# Altium integrated library TI Amplifiers and Linear Operational Amplifier Fully Differential Amplifier.IntLib: 262 symbols (part 5 of 11)
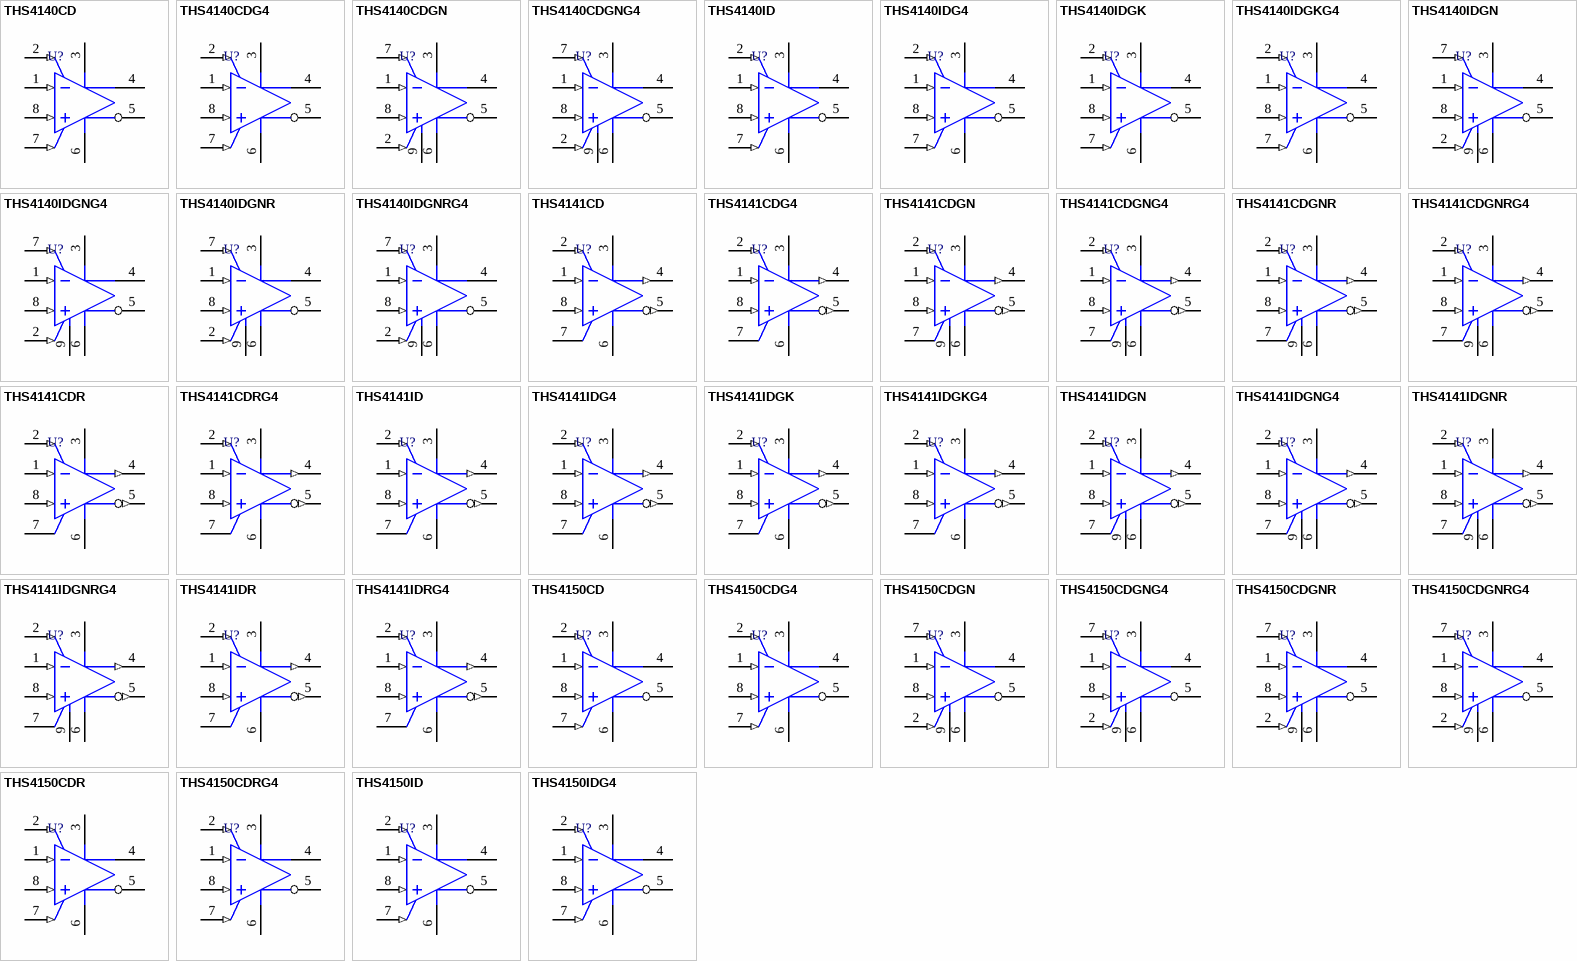
[diagram p11: symbols THS4140CD to THS4150IDG4]

## THS4141IDR
designator U?
Fully Differential Input / Output High Slew Rate Amplifier, 5 to 30 V, -40 to 85 degC, 8-pin SOIC (D8), Green (RoHS & no Sb/Br); Manufacturer: Texas Instruments; PartNumber: THS4141IDR; 2nd Harmonic(dBc): 85; 3rd Harmonic(dBc): 79; @ MHz: 1; BW @ Acl(MHz): 160; Iq per channel(Max)(mA): 16; Offset Voltage Drift (+/-)(Max)(uV/Degrees Celsius: 7; Settling Time (0.1%)(Typ)(ns): 96; Slew Rate(Typ)(V/us): 450; SubFamily: Fully Differential Amplifier; THD (Fc is 1 MHz)(Typ)(dB): -78; Vn at Flatband(Typ)(nV/rtHz): 6.5; Vs(Max)(V): 30; Vs(Min)(V): 5; DatasheetVersion: SLOS320F; PackageVersion: 4040047-3/M, 06/2011; PackageReference: D8; PackageDescription: 8-Pin Plastic Small Outline, Body 4.9 x 3.9 mm, Pitch 1.27 mm; Supplier 1: Digi-Key; Supplier Part Number 1: THS4141IDR-ND; Supplier 2: Mouser; Supplier Part Number 2: 595-THS4141IDR; Eco-Plan: Green (RoHS & no Sb/Br); Io(Typ)(mA): 85; Number of Channels: 1; Vio(Max)(mV): 7; Mounting Technology: Surface Mount; Code_JEDEC: MS-012; ComponentLink1Description: Manufacturer URL; ComponentLink1URL: http://www.ti.com/; ComponentLink2Description: Datasheet; ComponentLink2URL: http://www.ti.com/general/docs/lit/getliterature.tsp?genericPartNumber=THS4141&fileType=pdf; ComponentLink3Description: Package Specification; ComponentLink3URL: http://www.ti.com/litv/pdf/msoi002j
footprint TI-D8_N (SOIC, 8-Leads, Body 4.9x3.9mm, Pitch 1.27mm, IPC Medium Density)
footprint TI-D8_L (SOIC, 8-Leads, Body 4.9x3.9mm, Pitch 1.27mm, IPC High Density)
footprint TI-D8_M (SOIC, 8-Leads, Body 4.9x3.9mm, Pitch 1.27mm, IPC Low Density)
pins: 1 VIN- (in), 2 VOCM (in), 3 VCC+ (power), 4 VOUT+ (out), 5 VOUT- (out), 6 VCC- (power), 7 NC, 8 VIN+ (in)

## THS4141IDRG4
designator U?
Fully Differential Input / Output High Slew Rate Amplifier, 5 to 30 V, -40 to 85 degC, 8-pin SOIC (D8), Green (RoHS & no Sb/Br); Manufacturer: Texas Instruments; PartNumber: THS4141IDRG4; 2nd Harmonic(dBc): 85; 3rd Harmonic(dBc): 79; @ MHz: 1; BW @ Acl(MHz): 160; Iq per channel(Max)(mA): 16; Offset Voltage Drift (+/-)(Max)(uV/Degrees Celsius: 7; Settling Time (0.1%)(Typ)(ns): 96; Slew Rate(Typ)(V/us): 450; SubFamily: Fully Differential Amplifier; THD (Fc is 1 MHz)(Typ)(dB): -78; Vn at Flatband(Typ)(nV/rtHz): 6.5; Vs(Max)(V): 30; Vs(Min)(V): 5; DatasheetVersion: SLOS320F; PackageVersion: 4040047-3/M, 06/2011; PackageReference: D8; PackageDescription: 8-Pin Plastic Small Outline, Body 4.9 x 3.9 mm, Pitch 1.27 mm; Supplier 1: Digi-Key; Supplier Part Number 1: THS4141IDRG4-ND; Supplier 2: Mouser; Supplier Part Number 2: 595-THS4141IDRG4; Eco-Plan: Green (RoHS & no Sb/Br); Io(Typ)(mA): 85; Number of Channels: 1; Vio(Max)(mV): 7; Mounting Technology: Surface Mount; Code_JEDEC: MS-012; ComponentLink1Description: Manufacturer URL; ComponentLink1URL: http://www.ti.com/; ComponentLink2Description: Datasheet; ComponentLink2URL: http://www.ti.com/general/docs/lit/getliterature.tsp?genericPartNumber=THS4141&fileType=pdf; ComponentLink3Description: Package Specification; ComponentLink3URL: http://www.ti.com/litv/pdf/msoi002j
footprint TI-D8_N (SOIC, 8-Leads, Body 4.9x3.9mm, Pitch 1.27mm, IPC Medium Density)
footprint TI-D8_L (SOIC, 8-Leads, Body 4.9x3.9mm, Pitch 1.27mm, IPC High Density)
footprint TI-D8_M (SOIC, 8-Leads, Body 4.9x3.9mm, Pitch 1.27mm, IPC Low Density)
pins: 1 VIN- (in), 2 VOCM (in), 3 VCC+ (power), 4 VOUT+ (out), 5 VOUT- (out), 6 VCC- (power), 7 NC, 8 VIN+ (in)

## THS4150CD
designator U?
Fully Differential Input / Output High Slew Rate Amplifier with Shutdown, 5 to 30 V, 0 to 70 degC, 8-pin SOIC (D8), Green (RoHS & no Sb/Br); Manufacturer: Texas Instruments; PartNumber: THS4150CD; 2nd Harmonic(dBc): 86; 3rd Harmonic(dBc): 95; @ MHz: 1; BW @ Acl(MHz): 150; Io(Typ)(mA): 85; Iq per channel(Max)(mA): 21; Offset Voltage Drift (+/-)(Max)(uV/Degrees Celsius: 7; Settling Time (0.1%)(Typ)(ns): 53; Slew Rate(Typ)(V/us): 650; SubFamily: Fully Differential Amplifier; THD (Fc is 1 MHz)(Typ)(dB): -84; Vn at Flatband(Typ)(nV/rtHz): 7.6; Vs(Max)(V): 30; Vs(Min)(V): 5; DatasheetVersion: SLOS321G; PackageVersion: 4040047-3/M, 06/2011; PackageReference: D8; PackageDescription: 8-Pin Plastic Small Outline, Body 4.9 x 3.9 mm, Pitch 1.27 mm; Supplier 1: Digi-Key; Supplier Part Number 1: 296-34220-5-ND; Supplier 2: Newark; Supplier Part Number 2: 76C6432; Supplier 3: Mouser; Supplier Part Number 3: 595-THS4150CD; Eco-Plan: Green (RoHS & no Sb/Br); Number of Channels: 1; Vio(Max)(mV): 7; Mounting Technology: Surface Mount; Code_JEDEC: MS-012; ComponentLink1Description: Manufacturer URL; ComponentLink1URL: http://www.ti.com/; ComponentLink2Description: Datasheet; ComponentLink2URL: http://www.ti.com/general/docs/lit/getliterature.tsp?genericPartNumber=THS4150&fileType=pdf; ComponentLink3Description: Package Specification; ComponentLink3URL: http://www.ti.com/litv/pdf/msoi002j
footprint TI-D8_N (SOIC, 8-Leads, Body 4.9x3.9mm, Pitch 1.27mm, IPC Medium Density)
footprint TI-D8_L (SOIC, 8-Leads, Body 4.9x3.9mm, Pitch 1.27mm, IPC High Density)
footprint TI-D8_M (SOIC, 8-Leads, Body 4.9x3.9mm, Pitch 1.27mm, IPC Low Density)
pins: 1 VIN- (in), 2 VOCM (in), 3 VCC+ (power), 4 VOUT+ (hiz), 5 VOUT- (hiz), 6 VCC- (power), 7 ~{PD} (in), 8 VIN+ (in)

## THS4150CDG4
designator U?
Fully Differential Input / Output High Slew Rate Amplifier with Shutdown, 5 to 30 V, 0 to 70 degC, 8-pin SOIC (D8), Green (RoHS & no Sb/Br); Manufacturer: Texas Instruments; PartNumber: THS4150CDG4; 2nd Harmonic(dBc): 86; 3rd Harmonic(dBc): 95; @ MHz: 1; BW @ Acl(MHz): 150; Io(Typ)(mA): 85; Iq per channel(Max)(mA): 21; Offset Voltage Drift (+/-)(Max)(uV/Degrees Celsius: 7; Settling Time (0.1%)(Typ)(ns): 53; Slew Rate(Typ)(V/us): 650; SubFamily: Fully Differential Amplifier; THD (Fc is 1 MHz)(Typ)(dB): -84; Vn at Flatband(Typ)(nV/rtHz): 7.6; Vs(Max)(V): 30; Vs(Min)(V): 5; DatasheetVersion: SLOS321G; PackageVersion: 4040047-3/M, 06/2011; PackageReference: D8; PackageDescription: 8-Pin Plastic Small Outline, Body 4.9 x 3.9 mm, Pitch 1.27 mm; Supplier 1: Digi-Key; Supplier Part Number 1: THS4150CDG4-ND; Supplier 2: Mouser; Supplier Part Number 2: 595-THS4150CDG4; Eco-Plan: Green (RoHS & no Sb/Br); Number of Channels: 1; Vio(Max)(mV): 7; Mounting Technology: Surface Mount; Code_JEDEC: MS-012; ComponentLink1Description: Manufacturer URL; ComponentLink1URL: http://www.ti.com/; ComponentLink2Description: Datasheet; ComponentLink2URL: http://www.ti.com/general/docs/lit/getliterature.tsp?genericPartNumber=THS4150&fileType=pdf; ComponentLink3Description: Package Specification; ComponentLink3URL: http://www.ti.com/litv/pdf/msoi002j
footprint TI-D8_N (SOIC, 8-Leads, Body 4.9x3.9mm, Pitch 1.27mm, IPC Medium Density)
footprint TI-D8_L (SOIC, 8-Leads, Body 4.9x3.9mm, Pitch 1.27mm, IPC High Density)
footprint TI-D8_M (SOIC, 8-Leads, Body 4.9x3.9mm, Pitch 1.27mm, IPC Low Density)
pins: 1 VIN- (in), 2 VOCM (in), 3 VCC+ (power), 4 VOUT+ (hiz), 5 VOUT- (hiz), 6 VCC- (power), 7 ~{PD} (in), 8 VIN+ (in)

## THS4150CDGN
designator U?
Fully Differential Input / Output High Slew Rate Amplifier with Shutdown, 5 to 30 V, 0 to 70 degC, 8-pin SOP (DGN8), Green (RoHS & no Sb/Br); Manufacturer: Texas Instruments; PartNumber: THS4150CDGN; 2nd Harmonic(dBc): 86; 3rd Harmonic(dBc): 95; @ MHz: 1; BW @ Acl(MHz): 150; Io(Typ)(mA): 85; Iq per channel(Max)(mA): 21; Offset Voltage Drift (+/-)(Max)(uV/Degrees Celsius: 7; Settling Time (0.1%)(Typ)(ns): 53; Slew Rate(Typ)(V/us): 650; SubFamily: Fully Differential Amplifier; THD (Fc is 1 MHz)(Typ)(dB): -84; Vn at Flatband(Typ)(nV/rtHz): 7.6; Vs(Max)(V): 30; Vs(Min)(V): 5; DatasheetVersion: SLOS321G; PackageVersion: 4073271/F, 05/2011; PackageReference: DGN8-1760X1425TP; PackageDescription: 8-Pin Plastic Small Outline, Body 3 x 3 mm, Pitch 0.65 mm; Supplier 1: Digi-Key; Supplier Part Number 1: THS4150CDGN-ND; Supplier 2: Newark; Supplier Part Number 2: 76C6433; Supplier 3: Mouser; Supplier Part Number 3: 595-THS4150CDGN; Eco-Plan: Green (RoHS & no Sb/Br); Number of Channels: 1; Vio(Max)(mV): 7; Mounting Technology: Surface Mount; Code_JEDEC: MO-187; ComponentLink1Description: Manufacturer URL; ComponentLink1URL: http://www.ti.com/; ComponentLink2Description: Datasheet; ComponentLink2URL: http://www.ti.com/general/docs/lit/getliterature.tsp?genericPartNumber=THS4150&fileType=pdf; ComponentLink3Description: Package Specification; ComponentLink3URL: http://www.ti.com/litv/pdf/mpds046e
footprint TI-DGN8-1760X1425TP_N (SOP, 8-Leads, Body 3x3mm, Pitch 0.65mm, Thermal Pad 1.76x1.425mm, IPC Medium Density)
footprint TI-DGN8-1760X1425TP_L (SOP, 8-Leads, Body 3x3mm, Pitch 0.65mm, Thermal Pad 1.76x1.425mm, IPC High Density)
footprint TI-DGN8-1760X1425TP_M (SOP, 8-Leads, Body 3x3mm, Pitch 0.65mm, Thermal Pad 1.76 x 1.425 mm, IPC Low Density)
pins: 1 VIN- (in), 2 VOCM (in), 3 VCC+ (power), 4 VOUT+ (hiz), 5 VOUT- (hiz), 6 VCC- (power), 7 ~{PD} (in), 8 VIN+ (in), 9 EP

## THS4150CDGNG4
designator U?
Fully Differential Input / Output High Slew Rate Amplifier with Shutdown, 5 to 30 V, 0 to 70 degC, 8-pin SOP (DGN8), Green (RoHS & no Sb/Br); Manufacturer: Texas Instruments; PartNumber: THS4150CDGNG4; 2nd Harmonic(dBc): 86; 3rd Harmonic(dBc): 95; @ MHz: 1; BW @ Acl(MHz): 150; Io(Typ)(mA): 85; Iq per channel(Max)(mA): 21; Offset Voltage Drift (+/-)(Max)(uV/Degrees Celsius: 7; Settling Time (0.1%)(Typ)(ns): 53; Slew Rate(Typ)(V/us): 650; SubFamily: Fully Differential Amplifier; THD (Fc is 1 MHz)(Typ)(dB): -84; Vn at Flatband(Typ)(nV/rtHz): 7.6; Vs(Max)(V): 30; Vs(Min)(V): 5; DatasheetVersion: SLOS321G; PackageVersion: 4073271/F, 05/2011; PackageReference: DGN8-1760X1425TP; PackageDescription: 8-Pin Plastic Small Outline, Body 3 x 3 mm, Pitch 0.65 mm; Supplier 1: Digi-Key; Supplier Part Number 1: THS4150CDGNG4-ND; Supplier 2: Mouser; Supplier Part Number 2: 595-THS4150CDGNG4; Eco-Plan: Green (RoHS & no Sb/Br); Number of Channels: 1; Vio(Max)(mV): 7; Mounting Technology: Surface Mount; Code_JEDEC: MO-187; ComponentLink1Description: Manufacturer URL; ComponentLink1URL: http://www.ti.com/; ComponentLink2Description: Datasheet; ComponentLink2URL: http://www.ti.com/general/docs/lit/getliterature.tsp?genericPartNumber=THS4150&fileType=pdf; ComponentLink3Description: Package Specification; ComponentLink3URL: http://www.ti.com/litv/pdf/mpds046e
footprint TI-DGN8-1760X1425TP_N (SOP, 8-Leads, Body 3x3mm, Pitch 0.65mm, Thermal Pad 1.76x1.425mm, IPC Medium Density)
footprint TI-DGN8-1760X1425TP_L (SOP, 8-Leads, Body 3x3mm, Pitch 0.65mm, Thermal Pad 1.76x1.425mm, IPC High Density)
footprint TI-DGN8-1760X1425TP_M (SOP, 8-Leads, Body 3x3mm, Pitch 0.65mm, Thermal Pad 1.76 x 1.425 mm, IPC Low Density)
pins: 1 VIN- (in), 2 VOCM (in), 3 VCC+ (power), 4 VOUT+ (hiz), 5 VOUT- (hiz), 6 VCC- (power), 7 ~{PD} (in), 8 VIN+ (in), 9 EP

## THS4150CDGNR
designator U?
Fully Differential Input / Output High Slew Rate Amplifier with Shutdown, 5 to 30 V, 0 to 70 degC, 8-pin SOP (DGN8), Green (RoHS & no Sb/Br); Manufacturer: Texas Instruments; PartNumber: THS4150CDGNR; 2nd Harmonic(dBc): 86; 3rd Harmonic(dBc): 95; @ MHz: 1; BW @ Acl(MHz): 150; Io(Typ)(mA): 85; Iq per channel(Max)(mA): 21; Offset Voltage Drift (+/-)(Max)(uV/Degrees Celsius: 7; Settling Time (0.1%)(Typ)(ns): 53; Slew Rate(Typ)(V/us): 650; SubFamily: Fully Differential Amplifier; THD (Fc is 1 MHz)(Typ)(dB): -84; Vn at Flatband(Typ)(nV/rtHz): 7.6; Vs(Max)(V): 30; Vs(Min)(V): 5; DatasheetVersion: SLOS321G; PackageVersion: 4073271/F, 05/2011; PackageReference: DGN8-1760X1425TP; PackageDescription: 8-Pin Plastic Small Outline, Body 3 x 3 mm, Pitch 0.65 mm; Supplier 1: Digi-Key; Supplier Part Number 1: THS4150CDGNR-ND; Supplier 2: Newark; Supplier Part Number 2: 76C6434; Supplier 3: Mouser; Supplier Part Number 3: 595-THS4150CDGNR; Eco-Plan: Green (RoHS & no Sb/Br); Number of Channels: 1; Vio(Max)(mV): 7; Mounting Technology: Surface Mount; Code_JEDEC: MO-187; ComponentLink1Description: Manufacturer URL; ComponentLink1URL: http://www.ti.com/; ComponentLink2Description: Datasheet; ComponentLink2URL: http://www.ti.com/general/docs/lit/getliterature.tsp?genericPartNumber=THS4150&fileType=pdf; ComponentLink3Description: Package Specification; ComponentLink3URL: http://www.ti.com/litv/pdf/mpds046e
footprint TI-DGN8-1760X1425TP_N (SOP, 8-Leads, Body 3x3mm, Pitch 0.65mm, Thermal Pad 1.76x1.425mm, IPC Medium Density)
footprint TI-DGN8-1760X1425TP_L (SOP, 8-Leads, Body 3x3mm, Pitch 0.65mm, Thermal Pad 1.76x1.425mm, IPC High Density)
footprint TI-DGN8-1760X1425TP_M (SOP, 8-Leads, Body 3x3mm, Pitch 0.65mm, Thermal Pad 1.76 x 1.425 mm, IPC Low Density)
pins: 1 VIN- (in), 2 VOCM (in), 3 VCC+ (power), 4 VOUT+ (hiz), 5 VOUT- (hiz), 6 VCC- (power), 7 ~{PD} (in), 8 VIN+ (in), 9 EP

## THS4150CDGNRG4
designator U?
Fully Differential Input / Output High Slew Rate Amplifier with Shutdown, 5 to 30 V, 0 to 70 degC, 8-pin SOP (DGN8), Green (RoHS & no Sb/Br); Manufacturer: Texas Instruments; PartNumber: THS4150CDGNRG4; 2nd Harmonic(dBc): 86; 3rd Harmonic(dBc): 95; @ MHz: 1; BW @ Acl(MHz): 150; Io(Typ)(mA): 85; Iq per channel(Max)(mA): 21; Offset Voltage Drift (+/-)(Max)(uV/Degrees Celsius: 7; Settling Time (0.1%)(Typ)(ns): 53; Slew Rate(Typ)(V/us): 650; SubFamily: Fully Differential Amplifier; THD (Fc is 1 MHz)(Typ)(dB): -84; Vn at Flatband(Typ)(nV/rtHz): 7.6; Vs(Max)(V): 30; Vs(Min)(V): 5; DatasheetVersion: SLOS321G; PackageVersion: 4073271/F, 05/2011; PackageReference: DGN8-1760X1425TP; PackageDescription: 8-Pin Plastic Small Outline, Body 3 x 3 mm, Pitch 0.65 mm; Supplier 1: Digi-Key; Supplier Part Number 1: THS4150CDGNRG4-ND; Supplier 2: Mouser; Supplier Part Number 2: 595-THS4150CDGNRG4; Eco-Plan: Green (RoHS & no Sb/Br); Number of Channels: 1; Vio(Max)(mV): 7; Mounting Technology: Surface Mount; Code_JEDEC: MO-187; ComponentLink1Description: Manufacturer URL; ComponentLink1URL: http://www.ti.com/; ComponentLink2Description: Datasheet; ComponentLink2URL: http://www.ti.com/general/docs/lit/getliterature.tsp?genericPartNumber=THS4150&fileType=pdf; ComponentLink3Description: Package Specification; ComponentLink3URL: http://www.ti.com/litv/pdf/mpds046e
footprint TI-DGN8-1760X1425TP_N (SOP, 8-Leads, Body 3x3mm, Pitch 0.65mm, Thermal Pad 1.76x1.425mm, IPC Medium Density)
footprint TI-DGN8-1760X1425TP_L (SOP, 8-Leads, Body 3x3mm, Pitch 0.65mm, Thermal Pad 1.76x1.425mm, IPC High Density)
footprint TI-DGN8-1760X1425TP_M (SOP, 8-Leads, Body 3x3mm, Pitch 0.65mm, Thermal Pad 1.76 x 1.425 mm, IPC Low Density)
pins: 1 VIN- (in), 2 VOCM (in), 3 VCC+ (power), 4 VOUT+ (hiz), 5 VOUT- (hiz), 6 VCC- (power), 7 ~{PD} (in), 8 VIN+ (in), 9 EP

## THS4150CDR
designator U?
Fully Differential Input / Output High Slew Rate Amplifier with Shutdown, 5 to 30 V, 0 to 70 degC, 8-pin SOIC (D8), Green (RoHS & no Sb/Br); Manufacturer: Texas Instruments; PartNumber: THS4150CDR; 2nd Harmonic(dBc): 86; 3rd Harmonic(dBc): 95; @ MHz: 1; BW @ Acl(MHz): 150; Io(Typ)(mA): 85; Iq per channel(Max)(mA): 21; Offset Voltage Drift (+/-)(Max)(uV/Degrees Celsius: 7; Settling Time (0.1%)(Typ)(ns): 53; Slew Rate(Typ)(V/us): 650; SubFamily: Fully Differential Amplifier; THD (Fc is 1 MHz)(Typ)(dB): -84; Vn at Flatband(Typ)(nV/rtHz): 7.6; Vs(Max)(V): 30; Vs(Min)(V): 5; DatasheetVersion: SLOS321G; PackageVersion: 4040047-3/M, 06/2011; PackageReference: D8; PackageDescription: 8-Pin Plastic Small Outline, Body 4.9 x 3.9 mm, Pitch 1.27 mm; Supplier 1: Digi-Key; Supplier Part Number 1: THS4150CDR-ND; Supplier 2: Mouser; Supplier Part Number 2: 595-THS4150CDR; Eco-Plan: Green (RoHS & no Sb/Br); Number of Channels: 1; Vio(Max)(mV): 7; Mounting Technology: Surface Mount; Code_JEDEC: MS-012; ComponentLink1Description: Manufacturer URL; ComponentLink1URL: http://www.ti.com/; ComponentLink2Description: Datasheet; ComponentLink2URL: http://www.ti.com/general/docs/lit/getliterature.tsp?genericPartNumber=THS4150&fileType=pdf; ComponentLink3Description: Package Specification; ComponentLink3URL: http://www.ti.com/litv/pdf/msoi002j
footprint TI-D8_N (SOIC, 8-Leads, Body 4.9x3.9mm, Pitch 1.27mm, IPC Medium Density)
footprint TI-D8_L (SOIC, 8-Leads, Body 4.9x3.9mm, Pitch 1.27mm, IPC High Density)
footprint TI-D8_M (SOIC, 8-Leads, Body 4.9x3.9mm, Pitch 1.27mm, IPC Low Density)
pins: 1 VIN- (in), 2 VOCM (in), 3 VCC+ (power), 4 VOUT+ (hiz), 5 VOUT- (hiz), 6 VCC- (power), 7 ~{PD} (in), 8 VIN+ (in)

## THS4150CDRG4
designator U?
Fully Differential Input / Output High Slew Rate Amplifier with Shutdown, 5 to 30 V, 0 to 70 degC, 8-pin SOIC (D8), Green (RoHS & no Sb/Br); Manufacturer: Texas Instruments; PartNumber: THS4150CDRG4; 2nd Harmonic(dBc): 86; 3rd Harmonic(dBc): 95; @ MHz: 1; BW @ Acl(MHz): 150; Io(Typ)(mA): 85; Iq per channel(Max)(mA): 21; Offset Voltage Drift (+/-)(Max)(uV/Degrees Celsius: 7; Settling Time (0.1%)(Typ)(ns): 53; Slew Rate(Typ)(V/us): 650; SubFamily: Fully Differential Amplifier; THD (Fc is 1 MHz)(Typ)(dB): -84; Vn at Flatband(Typ)(nV/rtHz): 7.6; Vs(Max)(V): 30; Vs(Min)(V): 5; DatasheetVersion: SLOS321G; PackageVersion: 4040047-3/M, 06/2011; PackageReference: D8; PackageDescription: 8-Pin Plastic Small Outline, Body 4.9 x 3.9 mm, Pitch 1.27 mm; Supplier 1: Digi-Key; Supplier Part Number 1: THS4150CDRG4-ND; Supplier 2: Mouser; Supplier Part Number 2: 595-THS4150CDRG4; Eco-Plan: Green (RoHS & no Sb/Br); Number of Channels: 1; Vio(Max)(mV): 7; Mounting Technology: Surface Mount; Code_JEDEC: MS-012; ComponentLink1Description: Manufacturer URL; ComponentLink1URL: http://www.ti.com/; ComponentLink2Description: Datasheet; ComponentLink2URL: http://www.ti.com/general/docs/lit/getliterature.tsp?genericPartNumber=THS4150&fileType=pdf; ComponentLink3Description: Package Specification; ComponentLink3URL: http://www.ti.com/litv/pdf/msoi002j
footprint TI-D8_N (SOIC, 8-Leads, Body 4.9x3.9mm, Pitch 1.27mm, IPC Medium Density)
footprint TI-D8_L (SOIC, 8-Leads, Body 4.9x3.9mm, Pitch 1.27mm, IPC High Density)
footprint TI-D8_M (SOIC, 8-Leads, Body 4.9x3.9mm, Pitch 1.27mm, IPC Low Density)
pins: 1 VIN- (in), 2 VOCM (in), 3 VCC+ (power), 4 VOUT+ (hiz), 5 VOUT- (hiz), 6 VCC- (power), 7 ~{PD} (in), 8 VIN+ (in)

## THS4150ID
designator U?
Fully Differential Input / Output High Slew Rate Amplifier with Shutdown, 5 to 30 V, -40 to 85 degC, 8-pin SOIC (D8), Green (RoHS & no Sb/Br); Manufacturer: Texas Instruments; PartNumber: THS4150ID; 2nd Harmonic(dBc): 86; 3rd Harmonic(dBc): 95; @ MHz: 1; BW @ Acl(MHz): 150; Io(Typ)(mA): 85; Iq per channel(Max)(mA): 21; Offset Voltage Drift (+/-)(Max)(uV/Degrees Celsius: 7; Settling Time (0.1%)(Typ)(ns): 53; Slew Rate(Typ)(V/us): 650; SubFamily: Fully Differential Amplifier; THD (Fc is 1 MHz)(Typ)(dB): -84; Vn at Flatband(Typ)(nV/rtHz): 7.6; Vs(Max)(V): 30; Vs(Min)(V): 5; DatasheetVersion: SLOS321G; PackageVersion: 4040047-3/M, 06/2011; PackageReference: D8; PackageDescription: 8-Pin Plastic Small Outline, Body 4.9 x 3.9 mm, Pitch 1.27 mm; Supplier 1: Digi-Key; Supplier Part Number 1: 296-10052-5-ND; Supplier 2: Mouser; Supplier Part Number 2: 595-THS4150ID; Eco-Plan: Green (RoHS & no Sb/Br); Number of Channels: 1; Vio(Max)(mV): 7; Mounting Technology: Surface Mount; Code_JEDEC: MS-012; ComponentLink1Description: Manufacturer URL; ComponentLink1URL: http://www.ti.com/; ComponentLink2Description: Datasheet; ComponentLink2URL: http://www.ti.com/general/docs/lit/getliterature.tsp?genericPartNumber=THS4150&fileType=pdf; ComponentLink3Description: Package Specification; ComponentLink3URL: http://www.ti.com/litv/pdf/msoi002j
footprint TI-D8_N (SOIC, 8-Leads, Body 4.9x3.9mm, Pitch 1.27mm, IPC Medium Density)
footprint TI-D8_L (SOIC, 8-Leads, Body 4.9x3.9mm, Pitch 1.27mm, IPC High Density)
footprint TI-D8_M (SOIC, 8-Leads, Body 4.9x3.9mm, Pitch 1.27mm, IPC Low Density)
pins: 1 VIN- (in), 2 VOCM (in), 3 VCC+ (power), 4 VOUT+ (hiz), 5 VOUT- (hiz), 6 VCC- (power), 7 ~{PD} (in), 8 VIN+ (in)

## THS4150IDG4
designator U?
Fully Differential Input / Output High Slew Rate Amplifier with Shutdown, 5 to 30 V, -40 to 85 degC, 8-pin SOIC (D8), Green (RoHS & no Sb/Br); Manufacturer: Texas Instruments; PartNumber: THS4150IDG4; 2nd Harmonic(dBc): 86; 3rd Harmonic(dBc): 95; @ MHz: 1; BW @ Acl(MHz): 150; Io(Typ)(mA): 85; Iq per channel(Max)(mA): 21; Offset Voltage Drift (+/-)(Max)(uV/Degrees Celsius: 7; Settling Time (0.1%)(Typ)(ns): 53; Slew Rate(Typ)(V/us): 650; SubFamily: Fully Differential Amplifier; THD (Fc is 1 MHz)(Typ)(dB): -84; Vn at Flatband(Typ)(nV/rtHz): 7.6; Vs(Max)(V): 30; Vs(Min)(V): 5; DatasheetVersion: SLOS321G; PackageVersion: 4040047-3/M, 06/2011; PackageReference: D8; PackageDescription: 8-Pin Plastic Small Outline, Body 4.9 x 3.9 mm, Pitch 1.27 mm; Supplier 1: Digi-Key; Supplier Part Number 1: THS4150IDG4-ND; Supplier 2: Mouser; Supplier Part Number 2: 595-THS4150IDG4; Eco-Plan: Green (RoHS & no Sb/Br); Number of Channels: 1; Vio(Max)(mV): 7; Mounting Technology: Surface Mount; Code_JEDEC: MS-012; ComponentLink1Description: Manufacturer URL; ComponentLink1URL: http://www.ti.com/; ComponentLink2Description: Datasheet; ComponentLink2URL: http://www.ti.com/general/docs/lit/getliterature.tsp?genericPartNumber=THS4150&fileType=pdf; ComponentLink3Description: Package Specification; ComponentLink3URL: http://www.ti.com/litv/pdf/msoi002j
footprint TI-D8_N (SOIC, 8-Leads, Body 4.9x3.9mm, Pitch 1.27mm, IPC Medium Density)
footprint TI-D8_L (SOIC, 8-Leads, Body 4.9x3.9mm, Pitch 1.27mm, IPC High Density)
footprint TI-D8_M (SOIC, 8-Leads, Body 4.9x3.9mm, Pitch 1.27mm, IPC Low Density)
pins: 1 VIN- (in), 2 VOCM (in), 3 VCC+ (power), 4 VOUT+ (hiz), 5 VOUT- (hiz), 6 VCC- (power), 7 ~{PD} (in), 8 VIN+ (in)

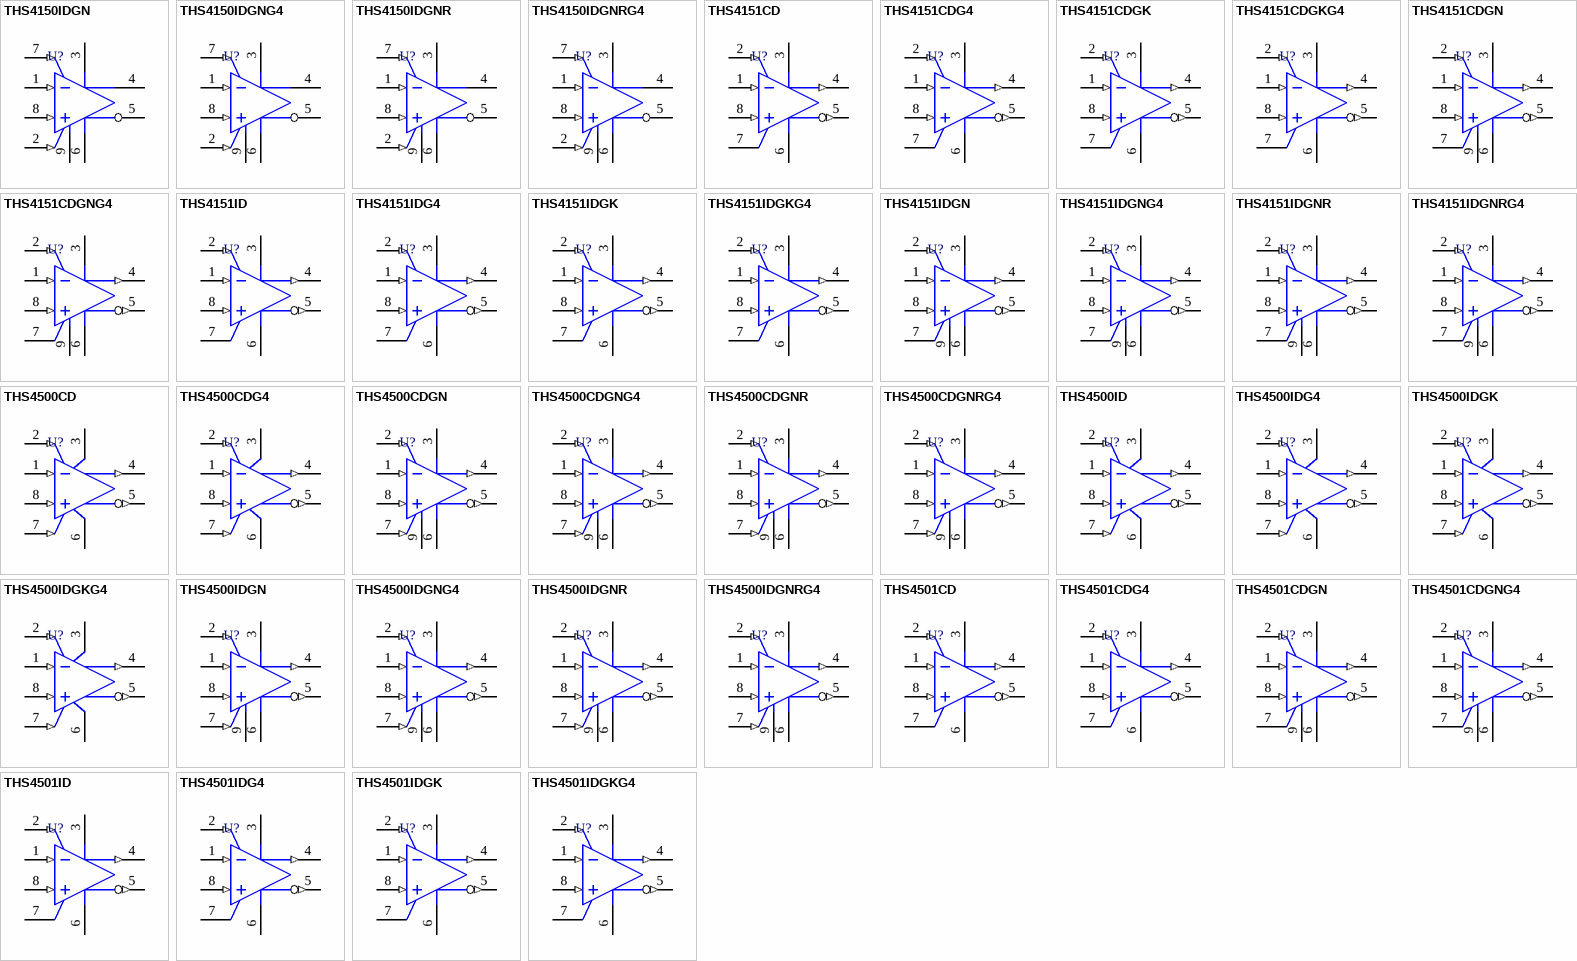
[diagram p3: symbols THS4150IDGN to THS4501IDGKG4]

## THS4150IDGN
designator U?
Fully Differential Input / Output High Slew Rate Amplifier with Shutdown, 5 to 30 V, -40 to 85 degC, 8-pin SOP (DGN8), Green (RoHS & no Sb/Br); Manufacturer: Texas Instruments; PartNumber: THS4150IDGN; 2nd Harmonic(dBc): 86; 3rd Harmonic(dBc): 95; @ MHz: 1; BW @ Acl(MHz): 150; Io(Typ)(mA): 85; Iq per channel(Max)(mA): 21; Offset Voltage Drift (+/-)(Max)(uV/Degrees Celsius: 7; Settling Time (0.1%)(Typ)(ns): 53; Slew Rate(Typ)(V/us): 650; SubFamily: Fully Differential Amplifier; THD (Fc is 1 MHz)(Typ)(dB): -84; Vn at Flatband(Typ)(nV/rtHz): 7.6; Vs(Max)(V): 30; Vs(Min)(V): 5; DatasheetVersion: SLOS321G; PackageVersion: 4073271/F, 05/2011; PackageReference: DGN8-1760X1425TP; PackageDescription: 8-Pin Plastic Small Outline, Body 3 x 3 mm, Pitch 0.65 mm; Supplier 1: Digi-Key; Supplier Part Number 1: THS4150IDGN-ND; Supplier 2: Newark; Supplier Part Number 2: 76C6438; Supplier 3: Mouser; Supplier Part Number 3: 595-THS4150IDGN; Eco-Plan: Green (RoHS & no Sb/Br); Number of Channels: 1; Vio(Max)(mV): 7; Mounting Technology: Surface Mount; Code_JEDEC: MO-187; ComponentLink1Description: Manufacturer URL; ComponentLink1URL: http://www.ti.com/; ComponentLink2Description: Datasheet; ComponentLink2URL: http://www.ti.com/general/docs/lit/getliterature.tsp?genericPartNumber=THS4150&fileType=pdf; ComponentLink3Description: Package Specification; ComponentLink3URL: http://www.ti.com/litv/pdf/mpds046e
footprint TI-DGN8-1760X1425TP_N (SOP, 8-Leads, Body 3x3mm, Pitch 0.65mm, Thermal Pad 1.76x1.425mm, IPC Medium Density)
footprint TI-DGN8-1760X1425TP_L (SOP, 8-Leads, Body 3x3mm, Pitch 0.65mm, Thermal Pad 1.76x1.425mm, IPC High Density)
footprint TI-DGN8-1760X1425TP_M (SOP, 8-Leads, Body 3x3mm, Pitch 0.65mm, Thermal Pad 1.76 x 1.425 mm, IPC Low Density)
pins: 1 VIN- (in), 2 VOCM (in), 3 VCC+ (power), 4 VOUT+ (hiz), 5 VOUT- (hiz), 6 VCC- (power), 7 ~{PD} (in), 8 VIN+ (in), 9 EP

## THS4150IDGNG4
designator U?
Fully Differential Input / Output High Slew Rate Amplifier with Shutdown, 5 to 30 V, -40 to 85 degC, 8-pin SOP (DGN8), Green (RoHS & no Sb/Br); Manufacturer: Texas Instruments; PartNumber: THS4150IDGNG4; 2nd Harmonic(dBc): 86; 3rd Harmonic(dBc): 95; @ MHz: 1; BW @ Acl(MHz): 150; Io(Typ)(mA): 85; Iq per channel(Max)(mA): 21; Offset Voltage Drift (+/-)(Max)(uV/Degrees Celsius: 7; Settling Time (0.1%)(Typ)(ns): 53; Slew Rate(Typ)(V/us): 650; SubFamily: Fully Differential Amplifier; THD (Fc is 1 MHz)(Typ)(dB): -84; Vn at Flatband(Typ)(nV/rtHz): 7.6; Vs(Max)(V): 30; Vs(Min)(V): 5; DatasheetVersion: SLOS321G; PackageVersion: 4073271/F, 05/2011; PackageReference: DGN8-1760X1425TP; PackageDescription: 8-Pin Plastic Small Outline, Body 3 x 3 mm, Pitch 0.65 mm; Supplier 1: Digi-Key; Supplier Part Number 1: THS4150IDGNG4-ND; Supplier 2: Mouser; Supplier Part Number 2: 595-THS4150IDGNG4; Eco-Plan: Green (RoHS & no Sb/Br); Number of Channels: 1; Vio(Max)(mV): 7; Mounting Technology: Surface Mount; Code_JEDEC: MO-187; ComponentLink1Description: Manufacturer URL; ComponentLink1URL: http://www.ti.com/; ComponentLink2Description: Datasheet; ComponentLink2URL: http://www.ti.com/general/docs/lit/getliterature.tsp?genericPartNumber=THS4150&fileType=pdf; ComponentLink3Description: Package Specification; ComponentLink3URL: http://www.ti.com/litv/pdf/mpds046e
footprint TI-DGN8-1760X1425TP_N (SOP, 8-Leads, Body 3x3mm, Pitch 0.65mm, Thermal Pad 1.76x1.425mm, IPC Medium Density)
footprint TI-DGN8-1760X1425TP_L (SOP, 8-Leads, Body 3x3mm, Pitch 0.65mm, Thermal Pad 1.76x1.425mm, IPC High Density)
footprint TI-DGN8-1760X1425TP_M (SOP, 8-Leads, Body 3x3mm, Pitch 0.65mm, Thermal Pad 1.76 x 1.425 mm, IPC Low Density)
pins: 1 VIN- (in), 2 VOCM (in), 3 VCC+ (power), 4 VOUT+ (hiz), 5 VOUT- (hiz), 6 VCC- (power), 7 ~{PD} (in), 8 VIN+ (in), 9 EP

## THS4150IDGNR
designator U?
Fully Differential Input / Output High Slew Rate Amplifier with Shutdown, 5 to 30 V, -40 to 85 degC, 8-pin SOP (DGN8), Green (RoHS & no Sb/Br); Manufacturer: Texas Instruments; PartNumber: THS4150IDGNR; 2nd Harmonic(dBc): 86; 3rd Harmonic(dBc): 95; @ MHz: 1; BW @ Acl(MHz): 150; Io(Typ)(mA): 85; Iq per channel(Max)(mA): 21; Offset Voltage Drift (+/-)(Max)(uV/Degrees Celsius: 7; Settling Time (0.1%)(Typ)(ns): 53; Slew Rate(Typ)(V/us): 650; SubFamily: Fully Differential Amplifier; THD (Fc is 1 MHz)(Typ)(dB): -84; Vn at Flatband(Typ)(nV/rtHz): 7.6; Vs(Max)(V): 30; Vs(Min)(V): 5; DatasheetVersion: SLOS321G; PackageVersion: 4073271/F, 05/2011; PackageReference: DGN8-1760X1425TP; PackageDescription: 8-Pin Plastic Small Outline, Body 3 x 3 mm, Pitch 0.65 mm; Supplier 1: Digi-Key; Supplier Part Number 1: 296-13344-2-ND; Supplier 2: Digi-Key; Supplier Part Number 2: 296-13344-1-ND; Supplier 3: Digi-Key; Supplier Part Number 3: 296-13344-6-ND; Supplier 4: Mouser; Supplier Part Number 4: 595-THS4150IDGNR; Eco-Plan: Green (RoHS & no Sb/Br); Number of Channels: 1; Vio(Max)(mV): 7; Mounting Technology: Surface Mount; Code_JEDEC: MO-187; ComponentLink1Description: Manufacturer URL; ComponentLink1URL: http://www.ti.com/; ComponentLink2Description: Datasheet; ComponentLink2URL: http://www.ti.com/general/docs/lit/getliterature.tsp?genericPartNumber=THS4150&fileType=pdf; ComponentLink3Description: Package Specification; ComponentLink3URL: http://www.ti.com/litv/pdf/mpds046e
footprint TI-DGN8-1760X1425TP_N (SOP, 8-Leads, Body 3x3mm, Pitch 0.65mm, Thermal Pad 1.76x1.425mm, IPC Medium Density)
footprint TI-DGN8-1760X1425TP_L (SOP, 8-Leads, Body 3x3mm, Pitch 0.65mm, Thermal Pad 1.76x1.425mm, IPC High Density)
footprint TI-DGN8-1760X1425TP_M (SOP, 8-Leads, Body 3x3mm, Pitch 0.65mm, Thermal Pad 1.76 x 1.425 mm, IPC Low Density)
pins: 1 VIN- (in), 2 VOCM (in), 3 VCC+ (power), 4 VOUT+ (hiz), 5 VOUT- (hiz), 6 VCC- (power), 7 ~{PD} (in), 8 VIN+ (in), 9 EP

## THS4150IDGNRG4
designator U?
Fully Differential Input / Output High Slew Rate Amplifier with Shutdown, 5 to 30 V, -40 to 85 degC, 8-pin SOP (DGN8), Green (RoHS & no Sb/Br); Manufacturer: Texas Instruments; PartNumber: THS4150IDGNRG4; 2nd Harmonic(dBc): 86; 3rd Harmonic(dBc): 95; @ MHz: 1; BW @ Acl(MHz): 150; Io(Typ)(mA): 85; Iq per channel(Max)(mA): 21; Offset Voltage Drift (+/-)(Max)(uV/Degrees Celsius: 7; Settling Time (0.1%)(Typ)(ns): 53; Slew Rate(Typ)(V/us): 650; SubFamily: Fully Differential Amplifier; THD (Fc is 1 MHz)(Typ)(dB): -84; Vn at Flatband(Typ)(nV/rtHz): 7.6; Vs(Max)(V): 30; Vs(Min)(V): 5; DatasheetVersion: SLOS321G; PackageVersion: 4073271/F, 05/2011; PackageReference: DGN8-1760X1425TP; PackageDescription: 8-Pin Plastic Small Outline, Body 3 x 3 mm, Pitch 0.65 mm; Supplier 1: Digi-Key; Supplier Part Number 1: THS4150IDGNRG4-ND; Supplier 2: Mouser; Supplier Part Number 2: 595-THS4150IDGNRG4; Eco-Plan: Green (RoHS & no Sb/Br); Number of Channels: 1; Vio(Max)(mV): 7; Mounting Technology: Surface Mount; Code_JEDEC: MO-187; ComponentLink1Description: Manufacturer URL; ComponentLink1URL: http://www.ti.com/; ComponentLink2Description: Datasheet; ComponentLink2URL: http://www.ti.com/general/docs/lit/getliterature.tsp?genericPartNumber=THS4150&fileType=pdf; ComponentLink3Description: Package Specification; ComponentLink3URL: http://www.ti.com/litv/pdf/mpds046e
footprint TI-DGN8-1760X1425TP_N (SOP, 8-Leads, Body 3x3mm, Pitch 0.65mm, Thermal Pad 1.76x1.425mm, IPC Medium Density)
footprint TI-DGN8-1760X1425TP_L (SOP, 8-Leads, Body 3x3mm, Pitch 0.65mm, Thermal Pad 1.76x1.425mm, IPC High Density)
footprint TI-DGN8-1760X1425TP_M (SOP, 8-Leads, Body 3x3mm, Pitch 0.65mm, Thermal Pad 1.76 x 1.425 mm, IPC Low Density)
pins: 1 VIN- (in), 2 VOCM (in), 3 VCC+ (power), 4 VOUT+ (hiz), 5 VOUT- (hiz), 6 VCC- (power), 7 ~{PD} (in), 8 VIN+ (in), 9 EP

## THS4151CD
designator U?
Fully Differential Input / Output High Slew Rate Amplifier, 5 to 30 V, 0 to 70 degC, 8-pin SOIC (D8), Green (RoHS & no Sb/Br); Manufacturer: Texas Instruments; PartNumber: THS4151CD; 2nd Harmonic(dBc): 86; 3rd Harmonic(dBc): 95; @ MHz: 1; BW @ Acl(MHz): 150; Io(Typ)(mA): 85; Iq per channel(Max)(mA): 21; Offset Voltage Drift (+/-)(Max)(uV/Degrees Celsius: 7; Settling Time (0.1%)(Typ)(ns): 53; Slew Rate(Typ)(V/us): 650; SubFamily: Fully Differential Amplifier; THD (Fc is 1 MHz)(Typ)(dB): -84; Vn at Flatband(Typ)(nV/rtHz): 7.6; Vs(Max)(V): 30; Vs(Min)(V): 5; DatasheetVersion: SLOS321G; PackageVersion: 4040047-3/M, 06/2011; PackageReference: D8; PackageDescription: 8-Pin Plastic Small Outline, Body 4.9 x 3.9 mm, Pitch 1.27 mm; Supplier 1: Digi-Key; Supplier Part Number 1: 296-34221-5-ND; Supplier 2: Newark; Supplier Part Number 2: 73C3829; Supplier 3: Mouser; Supplier Part Number 3: 595-THS4151CD; Eco-Plan: Green (RoHS & no Sb/Br); Number of Channels: 1; Vio(Max)(mV): 7; Mounting Technology: Surface Mount; Code_JEDEC: MS-012; ComponentLink1Description: Manufacturer URL; ComponentLink1URL: http://www.ti.com/; ComponentLink2Description: Datasheet; ComponentLink2URL: http://www.ti.com/general/docs/lit/getliterature.tsp?genericPartNumber=THS4151&fileType=pdf; ComponentLink3Description: Package Specification; ComponentLink3URL: http://www.ti.com/litv/pdf/msoi002j
footprint TI-D8_N (SOIC, 8-Leads, Body 4.9x3.9mm, Pitch 1.27mm, IPC Medium Density)
footprint TI-D8_L (SOIC, 8-Leads, Body 4.9x3.9mm, Pitch 1.27mm, IPC High Density)
footprint TI-D8_M (SOIC, 8-Leads, Body 4.9x3.9mm, Pitch 1.27mm, IPC Low Density)
pins: 1 VIN- (in), 2 VOCM (in), 3 VCC+ (power), 4 VOUT+ (out), 5 VOUT- (out), 6 VCC- (power), 7 NC, 8 VIN+ (in)

## THS4151CDG4
designator U?
Fully Differential Input / Output High Slew Rate Amplifier, 5 to 30 V, 0 to 70 degC, 8-pin SOIC (D8), Green (RoHS & no Sb/Br); Manufacturer: Texas Instruments; PartNumber: THS4151CDG4; 2nd Harmonic(dBc): 86; 3rd Harmonic(dBc): 95; @ MHz: 1; BW @ Acl(MHz): 150; Io(Typ)(mA): 85; Iq per channel(Max)(mA): 21; Offset Voltage Drift (+/-)(Max)(uV/Degrees Celsius: 7; Settling Time (0.1%)(Typ)(ns): 53; Slew Rate(Typ)(V/us): 650; SubFamily: Fully Differential Amplifier; THD (Fc is 1 MHz)(Typ)(dB): -84; Vn at Flatband(Typ)(nV/rtHz): 7.6; Vs(Max)(V): 30; Vs(Min)(V): 5; DatasheetVersion: SLOS321G; PackageVersion: 4040047-3/M, 06/2011; PackageReference: D8; PackageDescription: 8-Pin Plastic Small Outline, Body 4.9 x 3.9 mm, Pitch 1.27 mm; Supplier 1: Digi-Key; Supplier Part Number 1: THS4151CDG4-ND; Supplier 2: Newark; Supplier Part Number 2: 81K4027; Supplier 3: Mouser; Supplier Part Number 3: 595-THS4151CDG4; Eco-Plan: Green (RoHS & no Sb/Br); Number of Channels: 1; Vio(Max)(mV): 7; Mounting Technology: Surface Mount; Code_JEDEC: MS-012; ComponentLink1Description: Manufacturer URL; ComponentLink1URL: http://www.ti.com/; ComponentLink2Description: Datasheet; ComponentLink2URL: http://www.ti.com/general/docs/lit/getliterature.tsp?genericPartNumber=THS4151&fileType=pdf; ComponentLink3Description: Package Specification; ComponentLink3URL: http://www.ti.com/litv/pdf/msoi002j
footprint TI-D8_N (SOIC, 8-Leads, Body 4.9x3.9mm, Pitch 1.27mm, IPC Medium Density)
footprint TI-D8_L (SOIC, 8-Leads, Body 4.9x3.9mm, Pitch 1.27mm, IPC High Density)
footprint TI-D8_M (SOIC, 8-Leads, Body 4.9x3.9mm, Pitch 1.27mm, IPC Low Density)
pins: 1 VIN- (in), 2 VOCM (in), 3 VCC+ (power), 4 VOUT+ (out), 5 VOUT- (out), 6 VCC- (power), 7 NC, 8 VIN+ (in)

## THS4151CDGK
designator U?
Fully Differential Input / Output High Slew Rate Amplifier, 5 to 30 V, 0 to 70 degC, 8-pin SOP (DGK8), Green (RoHS & no Sb/Br); Manufacturer: Texas Instruments; PartNumber: THS4151CDGK; 2nd Harmonic(dBc): 86; 3rd Harmonic(dBc): 95; @ MHz: 1; BW @ Acl(MHz): 150; Io(Typ)(mA): 85; Iq per channel(Max)(mA): 21; Offset Voltage Drift (+/-)(Max)(uV/Degrees Celsius: 7; Settling Time (0.1%)(Typ)(ns): 53; Slew Rate(Typ)(V/us): 650; SubFamily: Fully Differential Amplifier; THD (Fc is 1 MHz)(Typ)(dB): -84; Vn at Flatband(Typ)(nV/rtHz): 7.6; Vs(Max)(V): 30; Vs(Min)(V): 5; DatasheetVersion: SLOS321G; PackageVersion: 4073329/E, 05/2006; PackageReference: DGK8; PackageDescription: 8-Pin Thin Small Outline, Body 3 x 3 mm, Pitch 0.65 mm; Supplier 1: Digi-Key; Supplier Part Number 1: 296-34222-5-ND; Supplier 2: Mouser; Supplier Part Number 2: 595-THS4151CDGK; Eco-Plan: Green (RoHS & no Sb/Br); Number of Channels: 1; Vio(Max)(mV): 7; Mounting Technology: Surface Mount; Code_JEDEC: MO-187; ComponentLink1Description: Manufacturer URL; ComponentLink1URL: http://www.ti.com/; ComponentLink2Description: Datasheet; ComponentLink2URL: http://www.ti.com/general/docs/lit/getliterature.tsp?genericPartNumber=THS4151&fileType=pdf; ComponentLink3Description: Package Specification; ComponentLink3URL: http://www.ti.com/litv/pdf/mpds028d
footprint TI-DGK8_N (SOP, 8-Leads, Body 3x3mm, Pitch 0.65mm, IPC Medium Density)
footprint TI-DGK8_L (SOP, 8-Leads, Body 3x3mm, Pitch 0.65mm, IPC High Density)
footprint TI-DGK8_M (SOP, 8-Leads, Body 3x3mm, Pitch 0.65mm, IPC Low Density)
pins: 1 VIN- (in), 2 VOCM (in), 3 VCC+ (power), 4 VOUT+ (out), 5 VOUT- (out), 6 VCC- (power), 7 NC, 8 VIN+ (in)

## THS4151CDGKG4
designator U?
Fully Differential Input / Output High Slew Rate Amplifier, 5 to 30 V, 0 to 70 degC, 8-pin SOP (DGK8), Green (RoHS & no Sb/Br); Manufacturer: Texas Instruments; PartNumber: THS4151CDGKG4; 2nd Harmonic(dBc): 86; 3rd Harmonic(dBc): 95; @ MHz: 1; BW @ Acl(MHz): 150; Io(Typ)(mA): 85; Iq per channel(Max)(mA): 21; Offset Voltage Drift (+/-)(Max)(uV/Degrees Celsius: 7; Settling Time (0.1%)(Typ)(ns): 53; Slew Rate(Typ)(V/us): 650; SubFamily: Fully Differential Amplifier; THD (Fc is 1 MHz)(Typ)(dB): -84; Vn at Flatband(Typ)(nV/rtHz): 7.6; Vs(Max)(V): 30; Vs(Min)(V): 5; DatasheetVersion: SLOS321G; PackageVersion: 4073329/E, 05/2006; PackageReference: DGK8; PackageDescription: 8-Pin Thin Small Outline, Body 3 x 3 mm, Pitch 0.65 mm; Supplier 1: Digi-Key; Supplier Part Number 1: THS4151CDGKG4-ND; Supplier 2: Mouser; Supplier Part Number 2: 595-THS4151CDGKG4; Eco-Plan: Green (RoHS & no Sb/Br); Number of Channels: 1; Vio(Max)(mV): 7; Mounting Technology: Surface Mount; Code_JEDEC: MO-187; ComponentLink1Description: Manufacturer URL; ComponentLink1URL: http://www.ti.com/; ComponentLink2Description: Datasheet; ComponentLink2URL: http://www.ti.com/general/docs/lit/getliterature.tsp?genericPartNumber=THS4151&fileType=pdf; ComponentLink3Description: Package Specification; ComponentLink3URL: http://www.ti.com/litv/pdf/mpds028d
footprint TI-DGK8_N (SOP, 8-Leads, Body 3x3mm, Pitch 0.65mm, IPC Medium Density)
footprint TI-DGK8_L (SOP, 8-Leads, Body 3x3mm, Pitch 0.65mm, IPC High Density)
footprint TI-DGK8_M (SOP, 8-Leads, Body 3x3mm, Pitch 0.65mm, IPC Low Density)
pins: 1 VIN- (in), 2 VOCM (in), 3 VCC+ (power), 4 VOUT+ (out), 5 VOUT- (out), 6 VCC- (power), 7 NC, 8 VIN+ (in)

## THS4151CDGN
designator U?
Fully Differential Input / Output High Slew Rate Amplifier, 5 to 30 V, 0 to 70 degC, 8-pin SOP (DGN8), Green (RoHS & no Sb/Br); Manufacturer: Texas Instruments; PartNumber: THS4151CDGN; 2nd Harmonic(dBc): 86; 3rd Harmonic(dBc): 95; @ MHz: 1; BW @ Acl(MHz): 150; Io(Typ)(mA): 85; Iq per channel(Max)(mA): 21; Offset Voltage Drift (+/-)(Max)(uV/Degrees Celsius: 7; Settling Time (0.1%)(Typ)(ns): 53; Slew Rate(Typ)(V/us): 650; SubFamily: Fully Differential Amplifier; THD (Fc is 1 MHz)(Typ)(dB): -84; Vn at Flatband(Typ)(nV/rtHz): 7.6; Vs(Max)(V): 30; Vs(Min)(V): 5; DatasheetVersion: SLOS321G; PackageVersion: 4073271/F, 05/2011; PackageReference: DGN8-1760X1425TP; PackageDescription: 8-Pin Plastic Small Outline, Body 3 x 3 mm, Pitch 0.65 mm; Supplier 1: Digi-Key; Supplier Part Number 1: 296-34223-5-ND; Supplier 2: Newark; Supplier Part Number 2: 76C6441; Supplier 3: Mouser; Supplier Part Number 3: 595-THS4151CDGN; Eco-Plan: Green (RoHS & no Sb/Br); Number of Channels: 1; Vio(Max)(mV): 7; Mounting Technology: Surface Mount; Code_JEDEC: MO-187; ComponentLink1Description: Manufacturer URL; ComponentLink1URL: http://www.ti.com/; ComponentLink2Description: Datasheet; ComponentLink2URL: http://www.ti.com/general/docs/lit/getliterature.tsp?genericPartNumber=THS4151&fileType=pdf; ComponentLink3Description: Package Specification; ComponentLink3URL: http://www.ti.com/litv/pdf/mpds046e
footprint TI-DGN8-1760X1425TP_N (SOP, 8-Leads, Body 3x3mm, Pitch 0.65mm, Thermal Pad 1.76x1.425mm, IPC Medium Density)
footprint TI-DGN8-1760X1425TP_L (SOP, 8-Leads, Body 3x3mm, Pitch 0.65mm, Thermal Pad 1.76x1.425mm, IPC High Density)
footprint TI-DGN8-1760X1425TP_M (SOP, 8-Leads, Body 3x3mm, Pitch 0.65mm, Thermal Pad 1.76 x 1.425 mm, IPC Low Density)
pins: 1 VIN- (in), 2 VOCM (in), 3 VCC+ (power), 4 VOUT+ (out), 5 VOUT- (out), 6 VCC- (power), 7 NC, 8 VIN+ (in), 9 EP

## THS4151CDGNG4
designator U?
Fully Differential Input / Output High Slew Rate Amplifier, 5 to 30 V, 0 to 70 degC, 8-pin SOP (DGN8), Green (RoHS & no Sb/Br); Manufacturer: Texas Instruments; PartNumber: THS4151CDGNG4; 2nd Harmonic(dBc): 86; 3rd Harmonic(dBc): 95; @ MHz: 1; BW @ Acl(MHz): 150; Io(Typ)(mA): 85; Iq per channel(Max)(mA): 21; Offset Voltage Drift (+/-)(Max)(uV/Degrees Celsius: 7; Settling Time (0.1%)(Typ)(ns): 53; Slew Rate(Typ)(V/us): 650; SubFamily: Fully Differential Amplifier; THD (Fc is 1 MHz)(Typ)(dB): -84; Vn at Flatband(Typ)(nV/rtHz): 7.6; Vs(Max)(V): 30; Vs(Min)(V): 5; DatasheetVersion: SLOS321G; PackageVersion: 4073271/F, 05/2011; PackageReference: DGN8-1760X1425TP; PackageDescription: 8-Pin Plastic Small Outline, Body 3 x 3 mm, Pitch 0.65 mm; Supplier 1: Digi-Key; Supplier Part Number 1: THS4151CDGNG4-ND; Supplier 2: Newark; Supplier Part Number 2: 24K5015; Supplier 3: Mouser; Supplier Part Number 3: 595-THS4151CDGNG4; Eco-Plan: Green (RoHS & no Sb/Br); Number of Channels: 1; Vio(Max)(mV): 7; Mounting Technology: Surface Mount; Code_JEDEC: MO-187; ComponentLink1Description: Manufacturer URL; ComponentLink1URL: http://www.ti.com/; ComponentLink2Description: Datasheet; ComponentLink2URL: http://www.ti.com/general/docs/lit/getliterature.tsp?genericPartNumber=THS4151&fileType=pdf; ComponentLink3Description: Package Specification; ComponentLink3URL: http://www.ti.com/litv/pdf/mpds046e
footprint TI-DGN8-1760X1425TP_N (SOP, 8-Leads, Body 3x3mm, Pitch 0.65mm, Thermal Pad 1.76x1.425mm, IPC Medium Density)
footprint TI-DGN8-1760X1425TP_L (SOP, 8-Leads, Body 3x3mm, Pitch 0.65mm, Thermal Pad 1.76x1.425mm, IPC High Density)
footprint TI-DGN8-1760X1425TP_M (SOP, 8-Leads, Body 3x3mm, Pitch 0.65mm, Thermal Pad 1.76 x 1.425 mm, IPC Low Density)
pins: 1 VIN- (in), 2 VOCM (in), 3 VCC+ (power), 4 VOUT+ (out), 5 VOUT- (out), 6 VCC- (power), 7 NC, 8 VIN+ (in), 9 EP

## THS4151ID
designator U?
Fully Differential Input / Output High Slew Rate Amplifier, 5 to 30 V, -40 to 85 degC, 8-pin SOIC (D8), Green (RoHS & no Sb/Br); Manufacturer: Texas Instruments; PartNumber: THS4151ID; 2nd Harmonic(dBc): 86; 3rd Harmonic(dBc): 95; @ MHz: 1; BW @ Acl(MHz): 150; Io(Typ)(mA): 85; Iq per channel(Max)(mA): 21; Offset Voltage Drift (+/-)(Max)(uV/Degrees Celsius: 7; Settling Time (0.1%)(Typ)(ns): 53; Slew Rate(Typ)(V/us): 650; SubFamily: Fully Differential Amplifier; THD (Fc is 1 MHz)(Typ)(dB): -84; Vn at Flatband(Typ)(nV/rtHz): 7.6; Vs(Max)(V): 30; Vs(Min)(V): 5; DatasheetVersion: SLOS321G; PackageVersion: 4040047-3/M, 06/2011; PackageReference: D8; PackageDescription: 8-Pin Plastic Small Outline, Body 4.9 x 3.9 mm, Pitch 1.27 mm; Supplier 1: Digi-Key; Supplier Part Number 1: 296-10054-5-ND; Supplier 2: Farnell; Supplier Part Number 2: 8453292; Supplier 3: Newark; Supplier Part Number 3: 76C6445; Supplier 4: Mouser; Supplier Part Number 4: 595-THS4151ID; Eco-Plan: Green (RoHS & no Sb/Br); Number of Channels: 1; Vio(Max)(mV): 7; Mounting Technology: Surface Mount; Code_JEDEC: MS-012; ComponentLink1Description: Manufacturer URL; ComponentLink1URL: http://www.ti.com/; ComponentLink2Description: Datasheet; ComponentLink2URL: http://www.ti.com/general/docs/lit/getliterature.tsp?genericPartNumber=THS4151&fileType=pdf; ComponentLink3Description: Package Specification; ComponentLink3URL: http://www.ti.com/litv/pdf/msoi002j
footprint TI-D8_N (SOIC, 8-Leads, Body 4.9x3.9mm, Pitch 1.27mm, IPC Medium Density)
footprint TI-D8_L (SOIC, 8-Leads, Body 4.9x3.9mm, Pitch 1.27mm, IPC High Density)
footprint TI-D8_M (SOIC, 8-Leads, Body 4.9x3.9mm, Pitch 1.27mm, IPC Low Density)
pins: 1 VIN- (in), 2 VOCM (in), 3 VCC+ (power), 4 VOUT+ (out), 5 VOUT- (out), 6 VCC- (power), 7 NC, 8 VIN+ (in)

## THS4151IDG4
designator U?
Fully Differential Input / Output High Slew Rate Amplifier, 5 to 30 V, -40 to 85 degC, 8-pin SOIC (D8), Green (RoHS & no Sb/Br); Manufacturer: Texas Instruments; PartNumber: THS4151IDG4; 2nd Harmonic(dBc): 86; 3rd Harmonic(dBc): 95; @ MHz: 1; BW @ Acl(MHz): 150; Io(Typ)(mA): 85; Iq per channel(Max)(mA): 21; Offset Voltage Drift (+/-)(Max)(uV/Degrees Celsius: 7; Settling Time (0.1%)(Typ)(ns): 53; Slew Rate(Typ)(V/us): 650; SubFamily: Fully Differential Amplifier; THD (Fc is 1 MHz)(Typ)(dB): -84; Vn at Flatband(Typ)(nV/rtHz): 7.6; Vs(Max)(V): 30; Vs(Min)(V): 5; DatasheetVersion: SLOS321G; PackageVersion: 4040047-3/M, 06/2011; PackageReference: D8; PackageDescription: 8-Pin Plastic Small Outline, Body 4.9 x 3.9 mm, Pitch 1.27 mm; Supplier 1: Digi-Key; Supplier Part Number 1: THS4151IDG4-ND; Supplier 2: Mouser; Supplier Part Number 2: 595-THS4151IDG4; Eco-Plan: Green (RoHS & no Sb/Br); Number of Channels: 1; Vio(Max)(mV): 7; Mounting Technology: Surface Mount; Code_JEDEC: MS-012; ComponentLink1Description: Manufacturer URL; ComponentLink1URL: http://www.ti.com/; ComponentLink2Description: Datasheet; ComponentLink2URL: http://www.ti.com/general/docs/lit/getliterature.tsp?genericPartNumber=THS4151&fileType=pdf; ComponentLink3Description: Package Specification; ComponentLink3URL: http://www.ti.com/litv/pdf/msoi002j
footprint TI-D8_N (SOIC, 8-Leads, Body 4.9x3.9mm, Pitch 1.27mm, IPC Medium Density)
footprint TI-D8_L (SOIC, 8-Leads, Body 4.9x3.9mm, Pitch 1.27mm, IPC High Density)
footprint TI-D8_M (SOIC, 8-Leads, Body 4.9x3.9mm, Pitch 1.27mm, IPC Low Density)
pins: 1 VIN- (in), 2 VOCM (in), 3 VCC+ (power), 4 VOUT+ (out), 5 VOUT- (out), 6 VCC- (power), 7 NC, 8 VIN+ (in)

## THS4151IDGK
designator U?
Fully Differential Input / Output High Slew Rate Amplifier, 5 to 30 V, -40 to 85 degC, 8-pin SOP (DGK8), Green (RoHS & no Sb/Br); Manufacturer: Texas Instruments; PartNumber: THS4151IDGK; 2nd Harmonic(dBc): 86; 3rd Harmonic(dBc): 95; @ MHz: 1; BW @ Acl(MHz): 150; Io(Typ)(mA): 85; Iq per channel(Max)(mA): 21; Offset Voltage Drift (+/-)(Max)(uV/Degrees Celsius: 7; Settling Time (0.1%)(Typ)(ns): 53; Slew Rate(Typ)(V/us): 650; SubFamily: Fully Differential Amplifier; THD (Fc is 1 MHz)(Typ)(dB): -84; Vn at Flatband(Typ)(nV/rtHz): 7.6; Vs(Max)(V): 30; Vs(Min)(V): 5; DatasheetVersion: SLOS321G; PackageVersion: 4073329/E, 05/2006; PackageReference: DGK8; PackageDescription: 8-Pin Thin Small Outline, Body 3 x 3 mm, Pitch 0.65 mm; Supplier 1: Digi-Key; Supplier Part Number 1: 296-16781-5-ND; Supplier 2: Mouser; Supplier Part Number 2: 595-THS4151IDGK; Eco-Plan: Green (RoHS & no Sb/Br); Number of Channels: 1; Vio(Max)(mV): 7; Mounting Technology: Surface Mount; Code_JEDEC: MO-187; ComponentLink1Description: Manufacturer URL; ComponentLink1URL: http://www.ti.com/; ComponentLink2Description: Datasheet; ComponentLink2URL: http://www.ti.com/general/docs/lit/getliterature.tsp?genericPartNumber=THS4151&fileType=pdf; ComponentLink3Description: Package Specification; ComponentLink3URL: http://www.ti.com/litv/pdf/mpds028d
footprint TI-DGK8_N (SOP, 8-Leads, Body 3x3mm, Pitch 0.65mm, IPC Medium Density)
footprint TI-DGK8_L (SOP, 8-Leads, Body 3x3mm, Pitch 0.65mm, IPC High Density)
footprint TI-DGK8_M (SOP, 8-Leads, Body 3x3mm, Pitch 0.65mm, IPC Low Density)
pins: 1 VIN- (in), 2 VOCM (in), 3 VCC+ (power), 4 VOUT+ (out), 5 VOUT- (out), 6 VCC- (power), 7 NC, 8 VIN+ (in)

## THS4151IDGKG4
designator U?
Fully Differential Input / Output High Slew Rate Amplifier, 5 to 30 V, -40 to 85 degC, 8-pin SOP (DGK8), Green (RoHS & no Sb/Br); Manufacturer: Texas Instruments; PartNumber: THS4151IDGKG4; 2nd Harmonic(dBc): 86; 3rd Harmonic(dBc): 95; @ MHz: 1; BW @ Acl(MHz): 150; Io(Typ)(mA): 85; Iq per channel(Max)(mA): 21; Offset Voltage Drift (+/-)(Max)(uV/Degrees Celsius: 7; Settling Time (0.1%)(Typ)(ns): 53; Slew Rate(Typ)(V/us): 650; SubFamily: Fully Differential Amplifier; THD (Fc is 1 MHz)(Typ)(dB): -84; Vn at Flatband(Typ)(nV/rtHz): 7.6; Vs(Max)(V): 30; Vs(Min)(V): 5; DatasheetVersion: SLOS321G; PackageVersion: 4073329/E, 05/2006; PackageReference: DGK8; PackageDescription: 8-Pin Thin Small Outline, Body 3 x 3 mm, Pitch 0.65 mm; Supplier 1: Digi-Key; Supplier Part Number 1: THS4151IDGKG4-ND; Supplier 2: Mouser; Supplier Part Number 2: 595-THS4151IDGKG4; Eco-Plan: Green (RoHS & no Sb/Br); Number of Channels: 1; Vio(Max)(mV): 7; Mounting Technology: Surface Mount; Code_JEDEC: MO-187; ComponentLink1Description: Manufacturer URL; ComponentLink1URL: http://www.ti.com/; ComponentLink2Description: Datasheet; ComponentLink2URL: http://www.ti.com/general/docs/lit/getliterature.tsp?genericPartNumber=THS4151&fileType=pdf; ComponentLink3Description: Package Specification; ComponentLink3URL: http://www.ti.com/litv/pdf/mpds028d
footprint TI-DGK8_N (SOP, 8-Leads, Body 3x3mm, Pitch 0.65mm, IPC Medium Density)
footprint TI-DGK8_L (SOP, 8-Leads, Body 3x3mm, Pitch 0.65mm, IPC High Density)
footprint TI-DGK8_M (SOP, 8-Leads, Body 3x3mm, Pitch 0.65mm, IPC Low Density)
pins: 1 VIN- (in), 2 VOCM (in), 3 VCC+ (power), 4 VOUT+ (out), 5 VOUT- (out), 6 VCC- (power), 7 NC, 8 VIN+ (in)

## THS4151IDGN
designator U?
Fully Differential Input / Output High Slew Rate Amplifier, 5 to 30 V, -40 to 85 degC, 8-pin SOP (DGN8), Green (RoHS & no Sb/Br); Manufacturer: Texas Instruments; PartNumber: THS4151IDGN; 2nd Harmonic(dBc): 86; 3rd Harmonic(dBc): 95; @ MHz: 1; BW @ Acl(MHz): 150; Io(Typ)(mA): 85; Iq per channel(Max)(mA): 21; Offset Voltage Drift (+/-)(Max)(uV/Degrees Celsius: 7; Settling Time (0.1%)(Typ)(ns): 53; Slew Rate(Typ)(V/us): 650; SubFamily: Fully Differential Amplifier; THD (Fc is 1 MHz)(Typ)(dB): -84; Vn at Flatband(Typ)(nV/rtHz): 7.6; Vs(Max)(V): 30; Vs(Min)(V): 5; DatasheetVersion: SLOS321G; PackageVersion: 4073271/F, 05/2011; PackageReference: DGN8-1760X1425TP; PackageDescription: 8-Pin Plastic Small Outline, Body 3 x 3 mm, Pitch 0.65 mm; Supplier 1: Digi-Key; Supplier Part Number 1: 296-34224-5-ND; Supplier 2: Newark; Supplier Part Number 2: 76C6446; Supplier 3: Mouser; Supplier Part Number 3: 595-THS4151IDGN; Eco-Plan: Green (RoHS & no Sb/Br); Number of Channels: 1; Vio(Max)(mV): 7; Mounting Technology: Surface Mount; Code_JEDEC: MO-187; ComponentLink1Description: Manufacturer URL; ComponentLink1URL: http://www.ti.com/; ComponentLink2Description: Datasheet; ComponentLink2URL: http://www.ti.com/general/docs/lit/getliterature.tsp?genericPartNumber=THS4151&fileType=pdf; ComponentLink3Description: Package Specification; ComponentLink3URL: http://www.ti.com/litv/pdf/mpds046e
footprint TI-DGN8-1760X1425TP_N (SOP, 8-Leads, Body 3x3mm, Pitch 0.65mm, Thermal Pad 1.76x1.425mm, IPC Medium Density)
footprint TI-DGN8-1760X1425TP_L (SOP, 8-Leads, Body 3x3mm, Pitch 0.65mm, Thermal Pad 1.76x1.425mm, IPC High Density)
footprint TI-DGN8-1760X1425TP_M (SOP, 8-Leads, Body 3x3mm, Pitch 0.65mm, Thermal Pad 1.76 x 1.425 mm, IPC Low Density)
pins: 1 VIN- (in), 2 VOCM (in), 3 VCC+ (power), 4 VOUT+ (out), 5 VOUT- (out), 6 VCC- (power), 7 NC, 8 VIN+ (in), 9 EP